# EAGLE library part JST-XH-06-PIN (library Rembrandt Electronics - JST XH Connectors v1-0)
JST XH Connector 2 Pin Wire to board connector. Pitch: 2,54 mm, (0.100") Number of pins: 6 Created by Rembrandt Electronics www.rembrandtelectronics.com
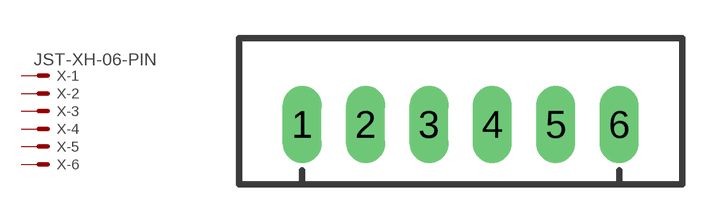
[diagram p0: symbol with the pads of JST-XH-06-PACKAGE-LONG-PAD; footprint JST-XH-06-PACKAGE-LONG-PAD]

Designator prefix X; gates -1=MV -2=M -3=M -4=M -5=M -6=M

## JST-XH-06-PIN-LONG-PAD  [JST-XH-06-PACKAGE-LONG-PAD]
1  -1:S  pas
2  -2:S  pas
3  -3:S  pas
4  -4:S  pas
5  -5:S  pas
6  -6:S  pas

## Footprint JST-XH-06-PACKAGE-LONG-PAD (pad centres in mm)
JST XH Connector Long Pads (Package) Wire to board connector. Pitch: 2,50 mm, (0.098") Number of pins: 6 Created by Rembrandt Electronics www.rembrandtelectronics.com Edited by Michael Karrs
drill 1.016 long: 1 -6.223,0; 2 -3.734,0; 3 -1.245,0; 4 1.245,0; 5 3.734,0; 6 6.223,0